# Altium schematic symbol library Transformer_EE85_IV.SchLib: 1 symbol
Pins are listed as number, name and electrical type; pins without a type are passive.

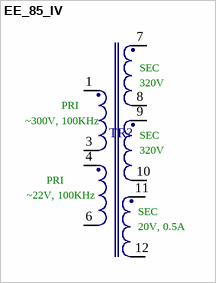
[diagram p0: symbol EE_85_IV]

## EE_85_IV
designator TR?, comment EE85  (value not drawn)
footprint EE85_Ferrite_Core
pins: 1, 3, 4, 6, 7, 8, 9, 10, 11, 12
text: SEC; 320V; PRI; ~300V, 100KHz; ~22V, 100KHz; 20V, 0.5A